# Altium footprint library NEC_Power_Interrupter.PcbLib: 13 footprints
Each footprint in its own frame and in the unit in brackets; x right, y up, seen from the top. Pads: shape width x height; smd on the part's side, far side on the other; paste and mask are expansions set on the pad; w line width, h text height; cw(c..) or ccw(c..) is an arc to the next point about the centre after c.
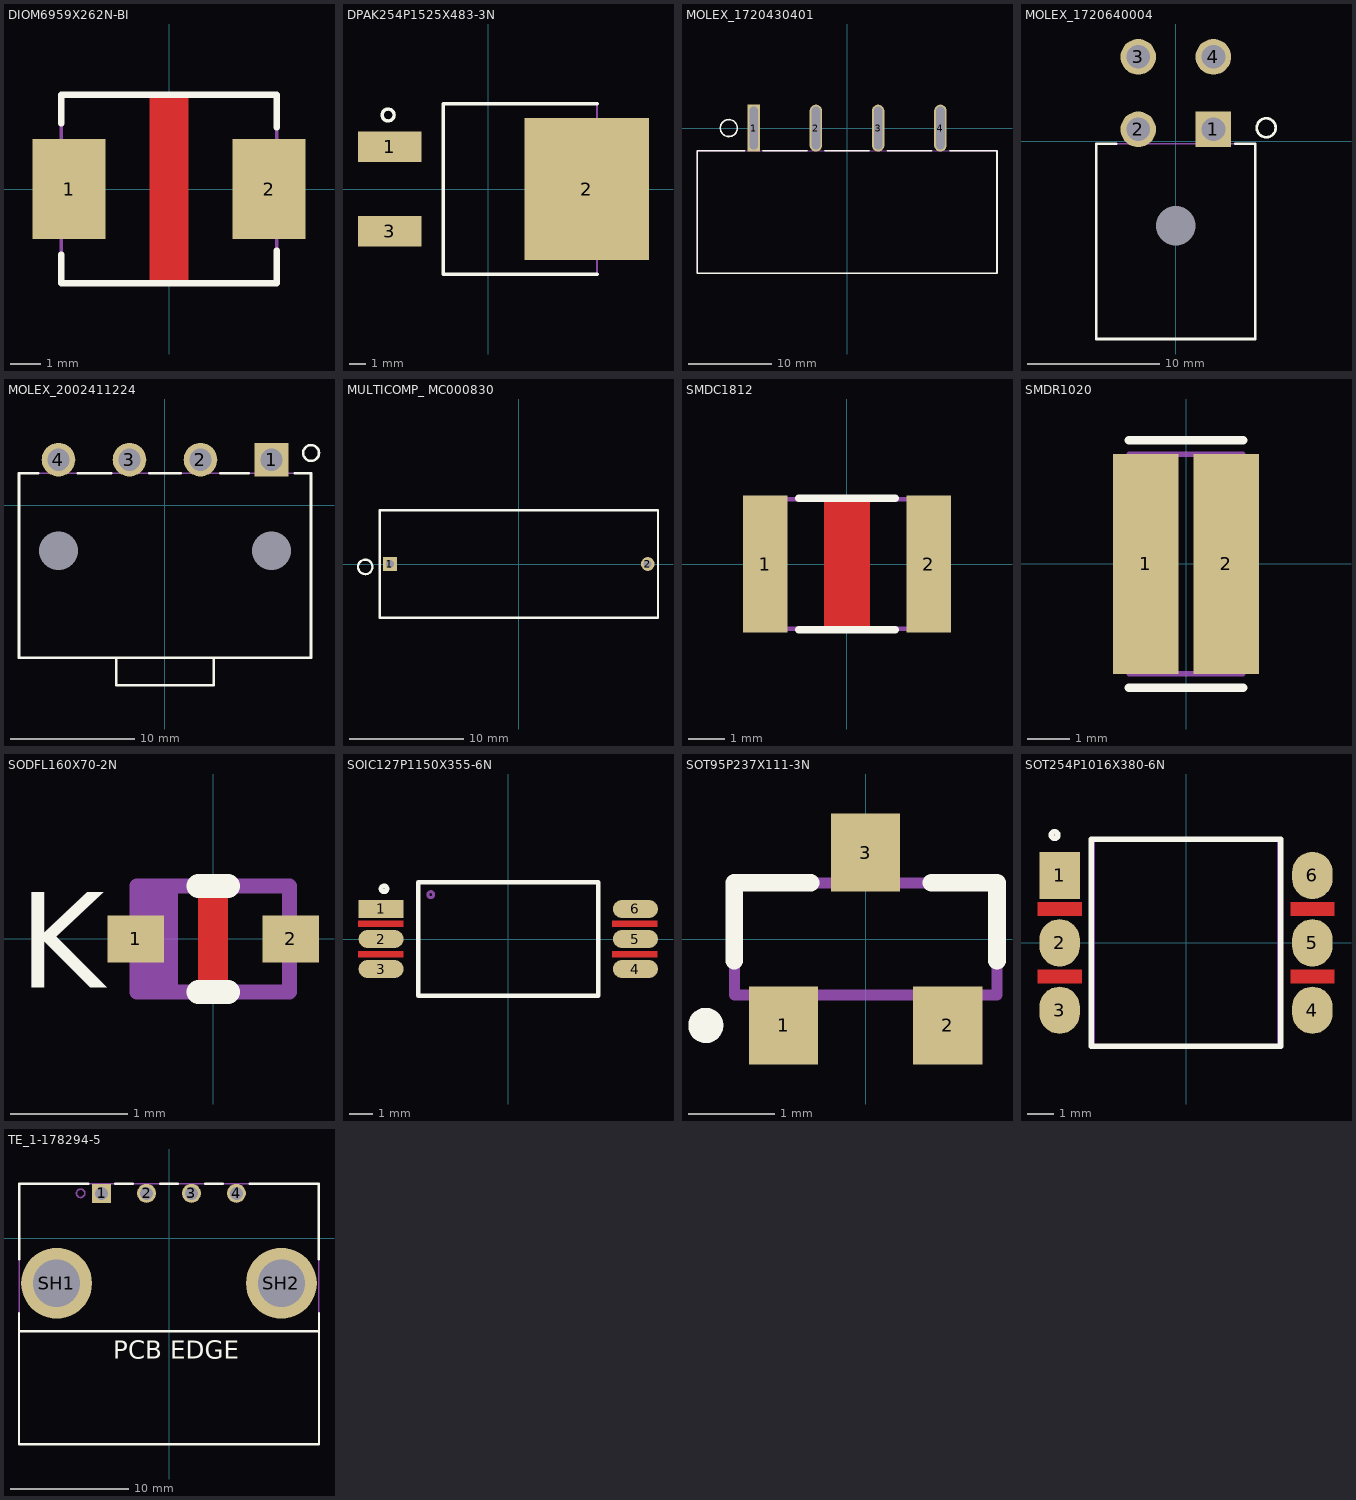
[diagram p0: the footprints below, top view; thin cyan lines are the x and y axes]

## DIOM6959X262N-BI [mm] "Molded Diode, 2-Leads, Body 6.86x5.91mm, IPC Medium Density"
height 2.62
pads (2):
  rect 2.4x3.3 smd mask+0.102: 1(-3.3,0) 2(3.3,0)
Top Layer:
  pour cut-out: -0.635,3.15 -0.635,-3.15 0.635,-3.15 0.635,3.15
Top Overlay:
  lines w0.203: -3.555,-2.159 -3.555,-3.11 3.556,-3.11 3.556,-2.032 ; -3.555,2.159 -3.555,3.11 3.555,3.11 3.555,2.032
Mechanical 1:
  text ".Designator" at 0,0 h1.52
Mechanical 15:
  lines w0.127: -3.555,-3.11 -3.555,3.11 3.555,3.11 3.555,-3.11 -3.555,-3.11
3D body: height 2.62, standoff 0, extent -3.775,-3.11 3.775,3.11

## DPAK254P1525X483-3N [mm] "D2-PAK, 3-Pads, Body 7.61x8.44mm (max), IPC Medium Density"
height 4.7
pads (3):
  rect 3.82x1.85 smd: 1(-5.917,2.54) 3(-5.917,-2.54)
  rect 7.48x8.55 smd paste-5: 2(5.918,0)
Top Overlay:
  circle w0.203: c-6.017,4.445 r0.357
  lines w0.203: 6.532,-5.13 -2.718,-5.13 -2.718,5.13 6.532,5.13
Top Paste:
  rectangle: 2.46,-3.93 3.43,-2.98
  rectangle: 2.46,-2.78 3.43,-1.83
  rectangle: 2.46,-1.63 3.43,-0.68
  rectangle: 2.46,-0.48 3.43,0.47
  rectangle: 2.46,0.67 3.43,1.62
  rectangle: 2.46,1.82 3.43,2.77
  rectangle: 2.46,2.97 3.43,3.92
  rectangle: 3.63,2.97 4.6,3.92
  rectangle: 3.63,1.82 4.6,2.77
  rectangle: 3.63,0.67 4.6,1.62
  rectangle: 3.63,-0.48 4.6,0.47
  rectangle: 3.63,-1.63 4.6,-0.68
  rectangle: 3.63,-2.78 4.6,-1.83
  rectangle: 3.63,-3.93 4.6,-2.98
  rectangle: 4.8,2.97 5.77,3.92
  rectangle: 4.8,1.82 5.77,2.77
  rectangle: 4.8,0.67 5.77,1.62
  rectangle: 4.8,-0.48 5.77,0.47
  rectangle: 4.8,-1.63 5.77,-0.68
  rectangle: 4.8,-2.78 5.77,-1.83
  rectangle: 4.8,-3.93 5.77,-2.98
  rectangle: 5.97,2.97 6.94,3.92
  rectangle: 5.97,1.82 6.94,2.77
  rectangle: 5.97,0.67 6.94,1.62
  rectangle: 5.97,-0.48 6.94,0.47
  rectangle: 5.97,-1.63 6.94,-0.68
  rectangle: 5.97,-2.78 6.94,-1.83
  rectangle: 5.97,-3.93 6.94,-2.98
  rectangle: 7.14,2.97 8.11,3.92
  rectangle: 7.14,1.82 8.11,2.77
  rectangle: 7.14,0.67 8.11,1.62
  rectangle: 7.14,-0.48 8.11,0.47
  rectangle: 7.14,-1.63 8.11,-0.68
  rectangle: 7.14,-2.78 8.11,-1.83
  rectangle: 7.14,-3.93 8.11,-2.98
  rectangle: 8.31,2.97 9.28,3.92
  rectangle: 8.31,1.82 9.28,2.77
  rectangle: 8.31,0.67 9.28,1.62
  rectangle: 8.31,-0.48 9.28,0.47
  rectangle: 8.31,-1.63 9.28,-0.68
  rectangle: 8.31,-2.78 9.28,-1.83
  rectangle: 8.31,-3.93 9.28,-2.98
Mechanical 1:
  text "'.Designator'" at 0.333,0 h1.52
Mechanical 15:
  circle w0.127: c-6.017,2.667 r0.524
  lines w0.127: -2.718,-5.13 -2.718,0 -2.718,5.13 6.532,5.13 6.532,0 6.532,-5.13 -2.718,-5.13
3D body: height 5.08, standoff 0, extent -6.268,-5.075 8.978,5.075

## MOLEX_1720430401 [mm] "CONN HDR 4POS 7.50MM R/A SLDR"
height 11.53
pads (4):
  rect 1.5x5.65 hole 1 slot 5.15 at 90 deg: 1(-11.235,0)
  oval 1.5x5.65 hole 1 slot 5.15 at 90 deg: 2(-3.745,0) 3(3.745,0) 4(11.235,0)
Top Overlay:
  circle w0.203: c-14.224,0 r1.024
  lines w0.203: -18.025,-2.725 -18.025,-17.485 18.043,-17.485 18.043,-2.734 ; -18.005,-2.725 -12.319,-2.725 ; -10.16,-2.725 -4.826,-2.725 ; -2.67,-2.725 2.664,-2.725 ; 4.82,-2.725 10.154,-2.725 ; 12.378,-2.725 18.035,-2.725
Mechanical 1:
  text "'.Designator'" at 0,0 h1.52
Mechanical 15:
  circle w0.127: c-11.235,0 r0.524
  lines w0.127: -18.055,-2.725 -18.055,-17.485 18.015,-17.485 18.015,-2.725 -18.035,-2.725
3D body: height 13.58, standoff -3.62, extent -18.025,-17.485 18.043,2.39

## MOLEX_1720640004 [mm] "CONN HEADER R/A 4POS 5.7MM"
height 16.78
pads (5):
  rect 2.7x2.7 hole 1.8: 1(2.85,0.9)
  round 2.7 hole 1.8: 2(-2.85,0.9) 3(-2.85,6.4) 4(2.85,6.4)
  round 0 hole 3 unplated: MH(0,-6.4)
Top Overlay:
  circle w0.203: c6.858,1.016 r0.718
  lines w0.203: -4.511,-0.2 -6.03,-0.2 -6.03,-15 6.03,-15 6.03,-0.2 4.511,-0.2
Mechanical 1:
  text "'.Designator'" at 0,0 h1.52
Mechanical 15:
  circle w0.127: c2.85,0.9 r0.803
  lines w0.127: -6.03,-15 6.03,-15 6.03,-0.2 -6.03,-0.2 -6.03,-15
3D body: height 14.12, standoff -4.02, extent -6.03,-15 6.03,6.962

## MOLEX_2002411224 [mm] "CONN HEADER R/A 4POS 5.7MM"
height 11.1
pads (6):
  rect 2.7x2.7 hole 1.8: 1(8.55,3.65)
  round 2.7 hole 1.8: 2(2.85,3.65) 3(-2.85,3.65) 4(-8.55,3.65)
  round 0 hole 3.1 unplated: MH1(8.55,-3.65) MH2(-8.55,-3.65)
Top Overlay:
  circle w0.203: c11.73,4.187 r0.633
  lines w0.203: -10.16,2.55 -11.72,2.55 -11.72,-12.25 11.72,-12.25 11.72,2.55 10.414,2.55 ; -6.985,2.55 -4.318,2.55 ; -3.9,-12.25 -3.9,-14.45 3.9,-14.45 3.9,-12.25 ; -1.27,2.55 1.27,2.55 ; 4.445,2.55 6.731,2.55
Mechanical 1:
  text "'.Designator'" at 0,0 h1.52
Mechanical 15:
  circle w0.127: c8.55,3.65 r0.458
  lines w0.127: -3.9,-12.25 -3.9,-14.45 3.9,-14.45 3.9,-12.25 ; -11.72,-12.25 11.72,-12.25 11.72,2.55 -11.72,2.55 -11.72,-12.25
3D body: height 11.2, standoff -3.49, extent -11.72,-14.45 11.73,4.187

## MULTICOMP_ MC000830 [mm] "Fuseholder, PCB Mount, 250V, 6.3A, 5 x 20mm, Solder, Through Hole, Semi Enclosed"
height 11.5
pads (2):
  rect 1.208x1.208 hole 0.7: 1(-11.3,0)
  round 1.2 hole 0.7: 2(11.3,0)
Top Overlay:
  circle w0.203: c-13.462,-0.254 r0.635
  lines w0.203: -12.2,-4.7 12.2,-4.7 12.2,4.7 12.199,4.699 -12.192,4.699 -12.2,4.691 -12.2,-4.7
Mechanical 1:
  text "'.Designator'" at 0,0 h1.52
Mechanical 15:
  circle w0.127: c-11.3,0 r0.359
  lines w0.127: -12.2,-4.7 -12.2,4.691 -12.192,4.699 12.199,4.699 12.2,4.7 12.2,-4.7 -12.2,-4.7
3D body: height 11.5, standoff 0, extent -12.2,-4.7 12.2,4.7
3D body: height 0, standoff -3.5, extent -11.548,-0.249 -11.05,0.25
3D body: height 0, standoff -3.5, extent 11.052,-0.249 11.55,0.25

## SMDC1812 [mm] "Chip Capacitor, 2-Leads, Body 4.50x3.20mm, IPC Medium Density"
height 3.5
pads (2):
  rect 1.25x3.8 smd: 1(-2.275,0) 2(2.275,0)
Top Layer:
  pour cut-out: -0.635,1.8 0.635,1.8 0.635,-1.827 -0.635,-1.827
Top Overlay:
  lines w0.203: -1.35,-1.827 1.35,-1.827 ; -1.35,1.827 1.35,1.827
Mechanical 1:
  text "'.Designator'" at 0,0 h1.52
Mechanical 15:
  lines w0.127: -2.45,-1.8 -2.45,1.8 2.45,1.8 2.45,-1.8 -2.45,-1.8
3D body: height 3.5, standoff 0, extent -2.45,-1.8 2.45,1.8

## SMDR1020 [mm] "Chip Resistor, 2-Leads, Body 2.50x5.00mm, IPC Medium Density"
height 0.75
pads (2):
  rect 1.55x5.2 smd: 1(-0.95,0) 2(0.95,0)
Top Overlay:
  lines w0.203: -1.35,-2.925 1.35,-2.925 ; -1.35,2.925 1.35,2.925
Mechanical 1:
  text ".Designator" at 0,0 h1.52
Mechanical 15:
  lines w0.127: -1.35,-2.6 -1.35,2.6 1.35,2.6 1.35,-2.6 -1.35,-2.6
3D body: height 0.75, standoff 0, extent -1.35,-2.6 1.35,2.6

## SODFL160X70-2N [mm] "SODFL, 2-Leads, Body 0.80x1.60mm, IPC Medium Density"
height 0.7
pads (2):
  rect 0.48x0.4 smd: 1(-0.66,0) 2(0.66,0)
Top Layer:
  pour cut-out: -0.125,0.45 -0.125,-0.45 0.125,-0.45 0.125,0.45
Top Overlay:
  lines w0.203: -0.125,-0.45 0.125,-0.45 ; -0.125,0.45 0.125,0.45
  text "K" at -1.651,-0.414 h0.81
Mechanical 1:
  text ".Designator" at 0,0 h1.52
Mechanical 15:
  rectangle: -0.65,-0.45 -0.3,0.45
  lines w0.127: -0.65,-0.45 -0.65,0.45 0.65,0.45 0.65,-0.45 -0.65,-0.45
3D body: height 0.7, standoff 0, extent -0.8,-0.45 0.8,0.45

## SOIC127P1150X355-6N [mm] "SOIC, 6-Leads, Body 4.68x7.50mm, Pitch 1.27mm, IPC Medium Density"
height 3.55
pads (6):
  rect 1.905x0.76 smd: 1(-5.375,1.27)
  oval 1.905x0.76 smd: 2(-5.375,0) 3(-5.375,-1.27) 4(5.375,-1.27) 5(5.375,0) 6(5.375,1.27)
Top Layer:
  pour cut-out: 4.4,0.762 6.305,0.762 6.305,0.508 4.4,0.508
  pour cut-out: 4.4,-0.508 6.305,-0.508 6.305,-0.762 4.4,-0.762
  pour cut-out: -6.35,-0.508 -4.445,-0.508 -4.445,-0.762 -6.35,-0.762
  pour cut-out: -6.35,0.762 -4.445,0.762 -4.445,0.508 -6.35,0.508
Top Overlay:
  circle w0.203: c-5.25,2.12 r0.125
  lines w0.203: -3.8,-2.4 3.8,-2.4 3.8,2.4 -3.8,2.4 -3.8,-2.4
Mechanical 1:
  text ".Designator" at 0,0 h1.52
Mechanical 15:
  circle w0.127: c-3.275,1.875 r0.125
  lines w0.127: -3.8,-2.4 -3.8,2.4 3.8,2.4 3.8,-2.4 -3.8,-2.4
3D body: height 3.55, standoff 0, extent -5.75,-2.4 5.75,2.4

## SOT95P237X111-3N [mm] "SOT23, 3-Leads, Body 2.92x2.37mm, Pitch 0.95mm, IPC Medium Density"
height 1.11
pads (3):
  rect 0.8x0.9 smd: 1(-0.95,-1) 2(0.95,-1) 3(0,1)
Top Overlay:
  circle w0.203: c-1.85,-1 r0.102
  lines w0.203: -1.52,-0.254 -1.52,0.65 -0.635,0.65 ; 0.762,0.65 1.52,0.65 1.52,-0.254
Mechanical 1:
  text ".Designator" at 0,0 h1.52
Mechanical 15:
  circle w0.127: c-0.95,-1 r0.18
  lines w0.127: -1.52,-0.65 1.52,-0.65 1.52,0.65 -1.52,0.65 -1.52,-0.65
3D body: height 1.11, standoff 0, extent -1.52,-1.32 1.52,1.32

## SOT254P1016X380-6N [mm] "SOP, 6-Leads, Body 7.30x6.50mm, Pitch 2.54mm, IPC Medium Density"
height 3.8
pads (6):
  rect 1.52x1.78 smd: 1(-4.765,2.54)
  oval 1.52x1.78 smd: 2(-4.765,0) 3(-4.765,-2.54) 4(4.765,-2.54) 5(4.765,0) 6(4.765,2.54)
Top Layer:
  pour cut-out: 3.942,1.524 5.593,1.524 5.593,1.016 3.942,1.016
  pour cut-out: 3.942,-1.016 5.593,-1.016 5.593,-1.524 3.942,-1.524
  pour cut-out: -5.588,-1.016 -3.937,-1.016 -3.937,-1.524 -5.588,-1.524
  pour cut-out: -5.588,1.524 -3.937,1.524 -3.937,1.016 -5.588,1.016
Top Overlay:
  circle w0.203: c-4.953,4.064 r0.125
  lines w0.203: -3.575,-3.9 3.575,-3.9 3.575,3.9 -3.575,3.9 -3.575,-3.9
Mechanical 1:
  text ".Designator" at 0,0 h1.52
Mechanical 15:
  circle w0.127: c-4.765,2.54 r0.5
  lines w0.127: -3.5,-3.9 3.5,-3.9 3.5,3.9 -3.5,3.9 -3.5,-3.9
3D body: height 3.51, standoff -0.2, extent -4.9,-3.65 4.9,3.6

## TE_1-178294-5 [mm] "CONN HEADER R/A 4POS 3.81MM"
height 9.5
pads (6):
  rect 1.608x1.608 hole 1.1: 1(-5.715,3.81)
  round 1.608 hole 1.1: 2(-1.905,3.81) 3(1.905,3.81) 4(5.715,3.81)
  round 6 hole 4: SH1(-9.525,-3.81) SH2(9.525,-3.81)
Top Overlay:
  lines w0.203: -12.715,-7.87 12.715,-7.87 ; -12.715,-6.35 -12.715,-17.47 12.7,-17.47 12.715,-17.455 12.715,-6.35 ; -12.7,-1.778 -12.7,4.63 -6.858,4.63 ; -4.572,4.63 -3.048,4.63 ; -0.762,4.63 0.762,4.63 ; 3.048,4.63 4.572,4.63 ; 6.858,4.63 12.7,4.63 12.7,-1.778
  text "PCB EDGE" at -4.714,-10.231 h1.52
Mechanical 1:
  text ".Designator" at 0,0 h1.52
Mechanical 15:
  circle w0.127: c-7.493,3.81 r0.359
  lines w0.127: -12.715,-7.87 12.715,-7.87 ; -12.715,-17.47 12.715,-17.47 12.715,4.63 -12.715,4.63 -12.715,-17.47
  text "PCB EDGE" at -4.714,-10.231 h1.52
3D body: height 11.17, standoff -3.47, extent -12.715,-17.47 12.715,4.63